# Altium footprint library soic.PcbLib: 11 footprints
Each footprint in its own frame and in the unit in brackets; x right, y up, seen from the top. Pads: shape width x height; smd on the part's side, far side on the other; paste and mask are expansions set on the pad; w line width, h text height; cw(c..) or ccw(c..) is an arc to the next point about the centre after c.
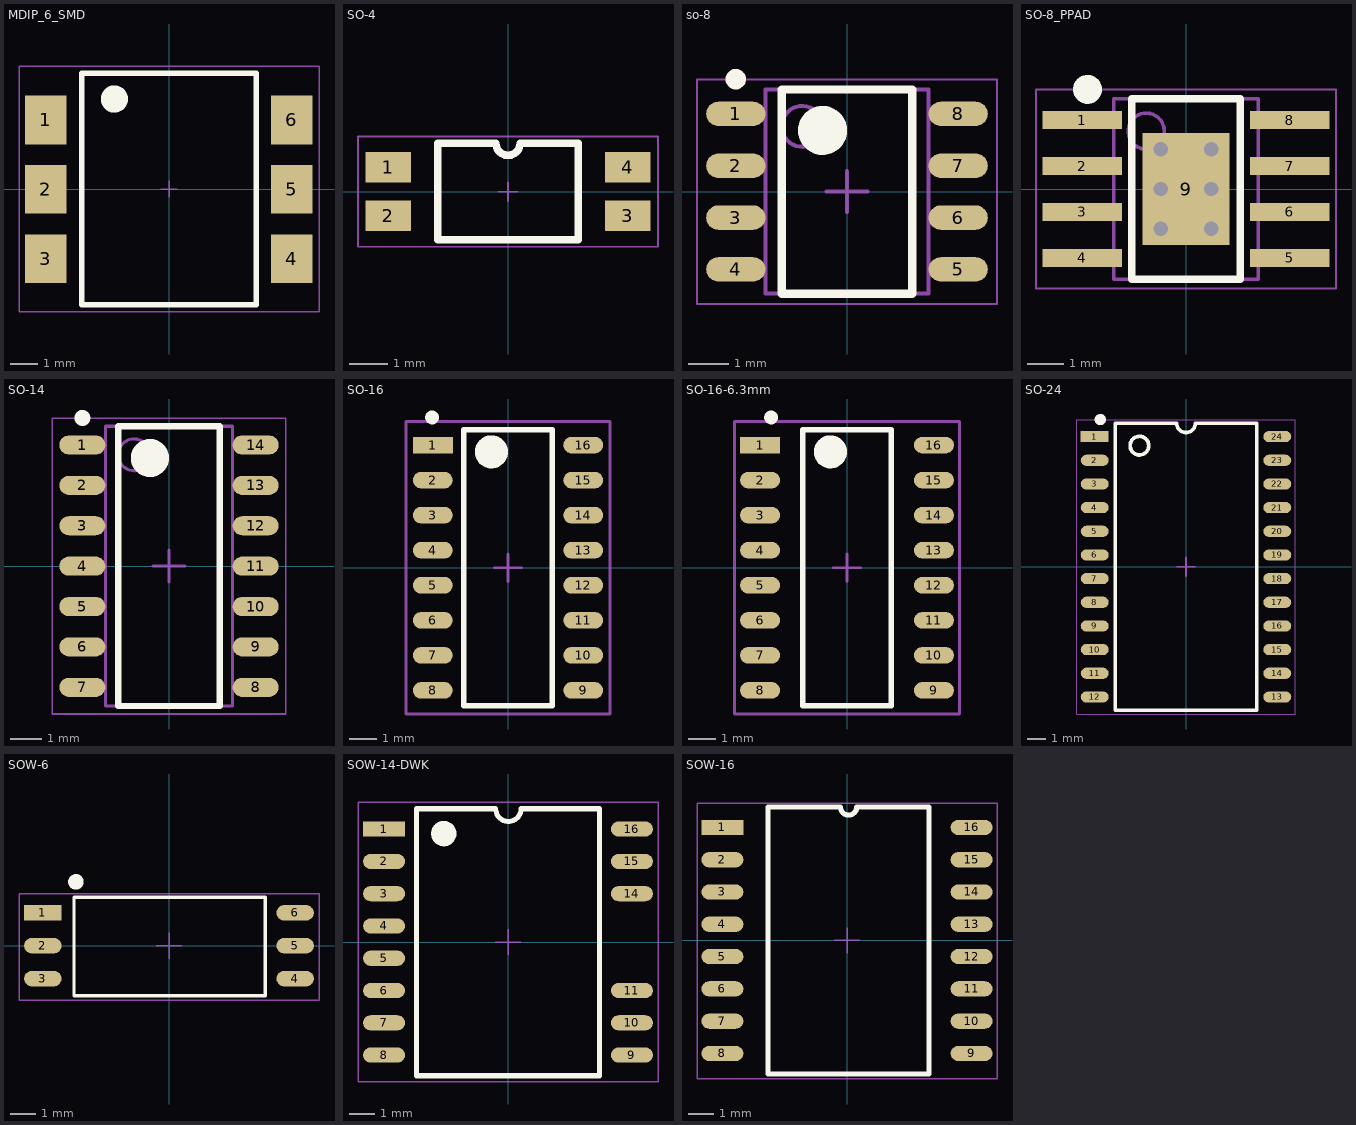
[diagram p0: the footprints below, top view; thin cyan lines are the x and y axes]

## MDIP_6_SMD [mm]
pads (6):
  rect 1.52x1.78 smd: 1(-4.513,2.53) 2(-4.513,-0.01) 3(-4.513,-2.55) 4(4.507,-2.55) 5(4.507,-0.01) 6(4.507,2.53)
Top Overlay:
  circle w0.5: c-2,3.3 r0.25
  lines w0.2: -3.2,-4.25 3.2,-4.25 3.2,4.25 -3.2,4.25 -3.2,-4.25
Mechanical 15:
  lines w0.05: -0.3,0 0.3,0 ; 0,-0.3 0,0.3 ; -5.5,-4.5 -5.5,4.5 5.5,4.5 5.5,-4.5 -5.5,-4.5
3D body "MDIP-6-SMD.SLDPRT": height 4.84, standoff -0.05, extent -4.75,-4.25 4.75,4.25

## SO-4 [mm] "4-Pin SOIC"
pads (4):
  rect 1.2x0.8 smd: 1(-3.15,0.64) 2(-3.15,-0.63) 3(3.15,-0.63) 4(3.15,0.64)
Top Overlay:
  lines w0.2: -1.85,-1.265 -1.85,1.275 -0.318,1.275 ccw(c0,1.275) 0.318,1.275 1.85,1.275 1.85,-1.265 -1.85,-1.265
Mechanical 15:
  lines w0.05: -0.25,0 0.25,0 ; 0,-0.25 0,0.25 ; -3.95,-1.45 -3.95,1.45 3.95,1.45 3.95,-1.45 -3.95,-1.45

## so-8 [mm] "SO-8 Package"
height 1.75
pads (8):
  oval 1.45x0.6 smd: 1(-2.725,1.905) 2(-2.725,0.635) 3(-2.725,-0.635) 4(-2.725,-1.905) 5(2.725,-1.905) 6(2.725,-0.635) 7(2.725,0.635) 8(2.725,1.905)
Top Overlay:
  circle w0.6: c-0.6,1.5 r0.3
  circle w0.25: c-2.725,2.755 r0.125
  lines w0.2: -1.6,-2.5 1.6,-2.5 1.6,2.5 -1.6,2.5 -1.6,-2.5
Mechanical 13:
  circle w0.1: c-1.1,1.6 r0.5
  lines w0.1: -2,-2.5 2,-2.5 2,2.5 -2,2.5 -2,-2.5
Mechanical 15:
  lines w0.05: -3.675,-2.75 3.675,-2.75 3.675,2.75 -3.675,2.75 -3.675,-2.75
  lines w0.1: -0.5,0 0.5,0 ; 0,-0.5 0,0.5
3D body "SOIC08 narrow.stp": height 2, standoff 0, extent -3.082,-2.5 3.081,2.5

## SO-8_PPAD [mm]
pads (9):
  rect 2.2x0.5 smd: 1(-2.875,1.905) 2(-2.875,0.635) 3(-2.875,-0.635) 4(-2.875,-1.905) 5(2.875,-1.905) 6(2.875,-0.635) 7(2.875,0.635) 8(2.875,1.905)
  rect 2.4x3.1 smd: 9(0,0)
via -0.7,-1.1 diameter 0.7 hole 0.4
via 0.7,-1.1 diameter 0.7 hole 0.4
via 0.7,0 diameter 0.7 hole 0.4
via -0.7,0 diameter 0.7 hole 0.4
via -0.7,1.1 diameter 0.7 hole 0.4
via 0.7,1.1 diameter 0.7 hole 0.4
Top Overlay:
  circle w0.4: c-2.725,2.755 r0.2
  lines w0.2: -1.5,-2.5 -1.5,2.5 1.5,2.5 1.5,-2.5 -1.5,-2.5
Mechanical 13:
  circle w0.1: c-1.1,1.6 r0.5
  lines w0.1: -2,-2.5 -2,2.5 2,2.5 2,-2.5 -2,-2.5
Mechanical 15:
  lines w0.05: -4.15,-2.75 -4.15,2.75 4.15,2.75 4.15,-2.75 -4.15,-2.75
  lines w0.1: -0.5,0 0.5,0 ; 0,-0.5 0,0.5
3D body "SOIC08 narrow.stp": height 2, standoff 0, extent -3.082,-2.5 3.081,2.5

## SO-14 [mm] "SOIC, 14-Leads, Body 8.65x3.90mm, Pitch 1.27mm, IPC Medium Density"
height 1.75
pads (14):
  oval 1.45x0.6 smd: 1(-2.725,3.81) 2(-2.725,2.54) 3(-2.725,1.27) 4(-2.725,0) 5(-2.725,-1.27) 6(-2.725,-2.54) 7(-2.725,-3.81) 8(2.725,-3.81) 9(2.725,-2.54) 10(2.725,-1.27) 11(2.725,0) 12(2.725,1.27) 13(2.725,2.54) 14(2.725,3.81)
Top Overlay:
  circle w0.25: c-2.725,4.66 r0.125
  circle w0.6: c-0.6,3.4 r0.3
  lines w0.2: -1.6,-4.4 -1.6,4.4 1.6,4.4 1.6,-4.4 -1.6,-4.4
Mechanical 13:
  circle w0.1: c-1.1,3.5 r0.5
  lines w0.1: -2,-4.4 -2,4.4 2,4.4 2,-4.4 -2,-4.4
Mechanical 15:
  lines w0.05: -3.675,-4.65 -3.675,4.65 3.675,4.65 3.675,-4.65 -3.675,-4.65
  lines w0.1: -0.5,0 0.5,0 ; 0,-0.5 0,0.5
3D body "SOIC14 narrow.stp": height 2, standoff 0, extent -3.082,-4.405 3.081,4.405

## SO-16 [mm]
pads (16):
  rect 1.45x0.6 smd: 1(-2.725,4.445)
  oval 1.45x0.6 smd: 2(-2.725,3.175) 3(-2.725,1.905) 4(-2.725,0.635) 5(-2.725,-0.635) 6(-2.725,-1.905) 7(-2.725,-3.175) 8(-2.725,-4.445) 9(2.725,-4.445) 10(2.725,-3.175) 11(2.725,-1.905) 12(2.725,-0.635) 13(2.725,0.635) 14(2.725,1.905) 15(2.725,3.175) 16(2.725,4.445)
Top Overlay:
  circle w0.25: c-2.75,5.445 r0.125
  circle w0.6: c-0.6,4.2 r0.3
  lines w0.2: -1.6,-5 1.6,-5 1.6,5 -1.6,5 -1.6,-5
Mechanical 15:
  lines w0.1: -0.5,0 0.5,0 ; 0,-0.5 0,0.5 ; -3.7,-5.3 -3.7,5.3 3.7,5.3 3.7,-5.3 -3.7,-5.3
3D body "SOIC16 narrow.stp": height 2, standoff 0, extent -3.107,-5.045 3.057,5.035

## SO-16-6.3mm [mm] "Slightly wider SOIC-16 (6.3mm)"
pads (16):
  rect 1.45x0.6 smd: 1(-3.15,4.445)
  oval 1.45x0.6 smd: 2(-3.15,3.175) 3(-3.15,1.905) 4(-3.15,0.635) 5(-3.15,-0.635) 6(-3.15,-1.905) 7(-3.15,-3.175) 8(-3.15,-4.445) 9(3.15,-4.445) 10(3.15,-3.175) 11(3.15,-1.905) 12(3.15,-0.635) 13(3.15,0.635) 14(3.15,1.905) 15(3.15,3.175) 16(3.15,4.445)
Top Overlay:
  circle w0.6: c-0.6,4.2 r0.3
  circle w0.25: c-2.75,5.445 r0.125
  lines w0.2: -1.6,-5 -1.6,5 1.6,5 1.6,-5 -1.6,-5
Mechanical 15:
  lines w0.1: -0.5,0 0.5,0 ; 0,-0.5 0,0.5 ; -4.075,-5.3 4.075,-5.3 4.075,5.3 -4.075,5.3 -4.075,-5.3
3D body "SOIC16 narrow.stp": height 2, standoff 0, extent -3.107,-5.045 3.057,5.035

## SO-24 [mm]
pads (24):
  rect 1.5x0.6 smd: 1(-4.9,6.985)
  oval 1.5x0.6 smd: 2(-4.9,5.715) 3(-4.9,4.445) 4(-4.9,3.175) 5(-4.9,1.905) 6(-4.9,0.635) 7(-4.9,-0.635) 8(-4.9,-1.905) 9(-4.9,-3.175) 10(-4.9,-4.445) 11(-4.9,-5.715) 12(-4.9,-6.985) 13(4.9,-6.985) 14(4.9,-5.715) 15(4.9,-4.445) 16(4.9,-3.175) 17(4.9,-1.905) 18(4.9,-0.635) 19(4.9,0.635) 20(4.9,1.905) 21(4.9,3.175) 22(4.9,4.445) 23(4.9,5.715) 24(4.9,6.985)
Top Overlay:
  circle w0.2: c-2.5,6.5 r0.5
  circle w0.3: c-4.6,7.9 r0.15
  lines w0.2: -3.8,-7.7 -3.8,7.7 -0.5,7.7 ccw(c0,7.7) 0.5,7.7 3.8,7.7 3.8,-7.7 -3.8,-7.7
Mechanical 15:
  lines w0.05: -5.85,-7.9 -5.85,7.9 5.85,7.9 5.85,-7.9 -5.85,-7.9
  lines w0.1: -0.5,0 0.5,0 ; 0,-0.5 0,0.5
3D body "SOIC-24.SLDPRT": height 2.62, standoff -0.03, extent -5.15,-7.71 5.15,7.71

## SOW-6 [mm]
pads (6):
  rect 1.45x0.6 smd: 1(-4.875,1.27)
  oval 1.45x0.6 smd: 2(-4.875,0) 3(-4.875,-1.27) 4(4.875,-1.27) 5(4.875,0) 6(4.875,1.27)
Top Overlay:
  circle w0.3: c-3.6,2.47 r0.15
  lines w0.127: -3.675,-1.93 -3.675,1.87 3.725,1.87 3.725,-1.93 -3.675,-1.93
Mechanical 15:
  lines w0.05: -0.5,0 0.5,0 ; 0,-0.5 0,0.5 ; -5.8,-2.1 5.8,-2.1 5.8,2 -5.8,2 -5.8,-2.1

## SOW-14-DWK [mm] "TI DWK Package"
pads (14):
  rect 1.65x0.6 smd: 1(-4.875,4.445)
  oval 1.65x0.6 smd: 2(-4.875,3.175) 3(-4.875,1.905) 4(-4.875,0.635) 5(-4.875,-0.635) 6(-4.875,-1.905) 7(-4.875,-3.175) 8(-4.875,-4.445) 9(4.875,-4.445) 10(4.875,-3.175) 11(4.875,-1.905) 14(4.875,1.905) 15(4.875,3.175) 16(4.875,4.445)
Top Overlay:
  circle w0.5: c-2.525,4.27 r0.25
  lines w0.2: -0.5,5.245 -3.6,5.245 -3.6,-5.255 3.6,-5.255 3.6,5.245 0.525,5.245 ; -0.485,5.245 ccw(c0.015,5.245) 0.515,5.245
Mechanical 15:
  lines w0.05: -0.5,0 0.5,0 ; 0,-0.5 0,0.5 ; -5.9,-5.5 5.9,-5.5 5.9,5.5 -5.9,5.5 -5.9,-5.5
3D body: height 2.65, standoff 0, extent -3.7,-5.255 3.7,5.245

## SOW-16 [mm] "Small Outline Wide Body"
pads (16):
  rect 1.65x0.6 smd: 1(-4.9,4.445)
  oval 1.65x0.6 smd: 2(-4.9,3.175) 3(-4.9,1.905) 4(-4.9,0.635) 5(-4.9,-0.635) 6(-4.9,-1.905) 7(-4.9,-3.175) 8(-4.9,-4.445) 9(4.9,-4.445) 10(4.9,-3.175) 11(4.9,-1.905) 12(4.9,-0.635) 13(4.9,0.635) 14(4.9,1.905) 15(4.9,3.175) 16(4.9,4.445)
Top Overlay:
  lines w0.2: -3.1,-5.255 -3.1,5.245 -0.253,5.245 ccw(c0.065,5.245) 0.382,5.245 3.23,5.245 3.23,-5.255 -3.1,-5.255
Mechanical 15:
  lines w0.05: -0.5,0 0.5,0 ; 0,-0.5 0,0.5 ; -5.9,-5.45 5.9,-5.45 5.9,5.4 -5.9,5.4 -5.9,-5.45
3D body "SOIC16 wide.stp": height 1.97, standoff -0.02, extent -5.1,-5.035 5.063,5.045